# Altium schematic symbol library QUTMS_SwitchLibrary.SchLib: 6 symbols
Pins are listed as number, name and electrical type; pins without a type are passive.

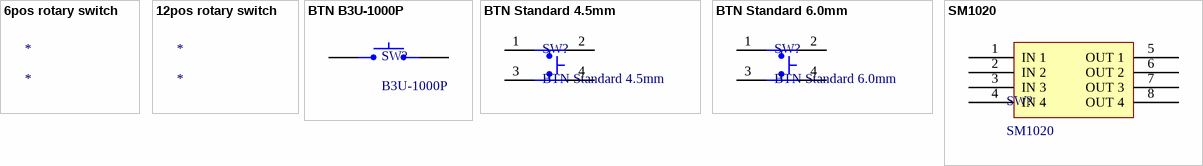
[diagram p0: symbols 6pos rotary switch to SM1020]

## 6pos rotary switch
designator *

## 12pos rotary switch
designator *

## BTN B3U-1000P
designator SW?, comment B3U-1000P
Omron B3U-1000P Ultra Miniture Switch; ComponentLink1Description: LCSC; ComponentLink1URL: https://lcsc.com/product-detail/Tactile-Switches_BRIGHT-TSA063G50-250_C294565.html
footprint BTN B3U-1000P (OMRON B3U-1000P)
pins: 1, 2

## BTN Standard 4.5mm
designator SW?
Standard 4.5mm X 4.5mm momentary button; ComponentLink1Description: LCSC; ComponentLink1URL: https://lcsc.com/product-detail/Tactile-Switches_BRIGHT-TSA063G50-250_C294565.html
footprint BTN STANDARD 4.5mm X 4.5mm
pins: 1, 2, 3, 4

## BTN Standard 6.0mm
designator SW?
Standard 6mm X 6mm momentary button; ComponentLink1Description: LCSC; ComponentLink1URL: https://lcsc.com/product-detail/Tactile-Switches_BRIGHT-TSA063G50-250_C294565.html
footprint BTN STANDARD 6mm X 6mm
pins: 1, 2, 3, 4

## SM1020
designator SW?
4 Pin DIL Switch
footprint SM1020
pins: 1 IN 1, 2 IN 2, 3 IN 3, 4 IN 4, 5 OUT 1, 6 OUT 2, 7 OUT 3, 8 OUT 4